# Altium schematic symbol library SRD-03VDC-SL-C.SchLib: 1 symbol
Pins are listed as number, name and electrical type; pins without a type are passive.

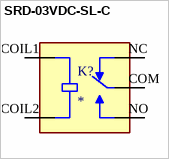
[diagram p0: symbol SRD-03VDC-SL-C]

## SRD-03VDC-SL-C
designator K?
MF: {'manufacturer': u'Songle Relay'}; MP: SRD-03VDC-SL-C; Package: None; Price: None; Value: *; Availability: Unavailable
footprint RELAY_SRD-03VDC-SL-C
pins: COIL1, COIL2, COM, NC, NO